# EAGLE library part 7490140123 (library WE-LAN)
WE-LAN LAN Transformer Characteristics Suitable for industrial temperatures from –40 °C up to +125 °C Different version available from 1.5 kV isolation to 6 kV. HPLE version Additional CMC for higher attenuation Non PoE, PoE and PoE++ up to 2 A PoE up to 150 W and speeds up to 1 Gbit/s Available in SMT Compliant with standards: IEEE 802.3u, IEEE 802.3ab, IEEE 802.3af, IEEE 802.3at and IEEE 802.3bt UL Recognized Applications Compatible to Industrial Ethernet systems like EtherCAT or Profinet Compliant with most IC’s for Ethernet applications such as Microchip, Texas Instruments, Broadcom, Linear Technology Router, switches, sensors, robotics, automation, IP cameras, IoT applications Details see: www.we-online.com/en/components/products/WE-LAN Updated by Ella Wu 2025-05-13 2025 (C) Würth Elektronik
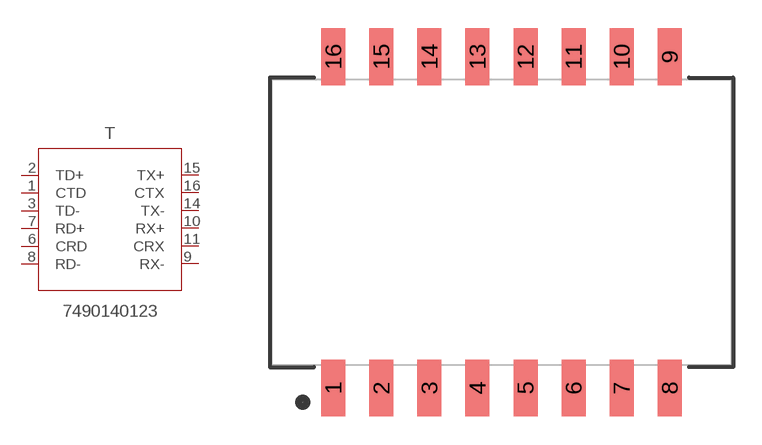
[diagram p11: symbol with the pads of 7490140123; footprint 7490140123]

Designator prefix T

## 7490140123 (DATA-RATE: 10/100BASE-T; DATASHEET: https://www.we-online.com/redexpert/spec/7490140123?ae; HPLE: No; IMPROVED-CMRR: No; L: 350 uH; MOUNT: SMT; OPERATING-TEMPERATURE: -40 °C up to +85 °C; PART-NUMBER: 7490140123; POE: non-PoE; PORTS: 1; VALUE: 7490140123; VT: 1500 V (RMS))  [7490140123]
1  CTD  pas
2  TD+  pas
3  TD-  pas
6  CRD  pas
7  RD+  pas
8  RD-  pas
9  RX-  pas
10  RX+  pas
11  CRX  pas
14  TX-  pas
15  TX+  pas
16  CTX  pas

## Footprint 7490140123 (pad centres in mm)
WE-LAN LAN Transformer 10/100BASE-T, 1Port, SMT
smd 1.27 x 3: 1 -8.89,-8.75; 2 -6.35,-8.75; 3 -3.81,-8.75; 4 -1.27,-8.75; 5 1.27,-8.75; 6 3.81,-8.75; 7 6.35,-8.75; 8 8.89,-8.75; 9 8.89,8.75; 10 6.35,8.75; 11 3.81,8.75; 12 1.27,8.75; 13 -1.27,8.75; 14 -3.81,8.75; 15 -6.35,8.75; 16 -8.89,8.75